# EAGLE library part LTC6253XMS (library ltc625x)
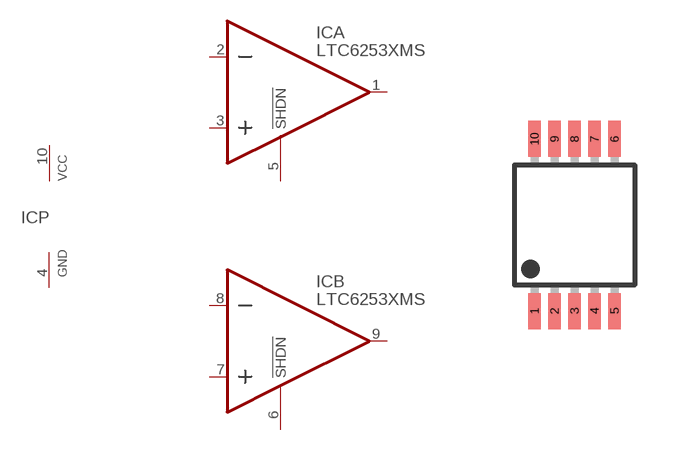
[diagram p2: symbol with the pads of MSOP10; footprint MSOP10]

Designator prefix IC; gates A=OPAMP-SHDN B=OPAMP-SHDN P=POWER

## LTC6253XMS  [MSOP10]
1  A:OUT  out
2  A:-IN  in
3  A:+IN  in
4  P:V-  pwr
5  A:!SHDN  out
6  B:!SHDN  out
7  B:+IN  in
8  B:-IN  in
9  B:OUT  out
10  P:V+  pwr

## Footprint MSOP10 (pad centres in mm)
smd 0.305 x 0.9: 1 -1,-2.15; 2 -0.5,-2.15; 3 0,-2.15; 4 0.5,-2.15; 5 1,-2.15; 6 1,2.15; 7 0.5,2.15; 8 0,2.15; 9 -0.5,2.15; 10 -1,2.15